# Altium schematic symbol library EL-sense_Accelerometer.SchLib: 4 symbols
Pins are listed as number, name and electrical type; pins without a type are passive.

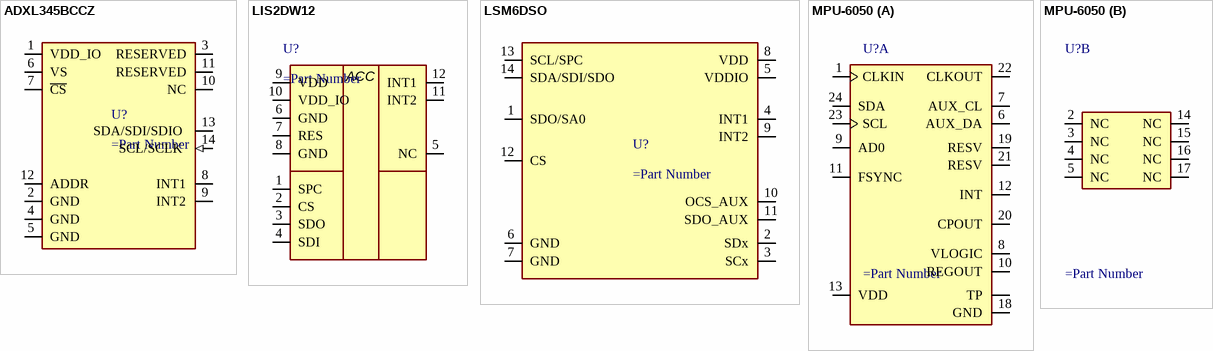
[diagram p0: symbols ADXL345BCCZ to MPU-6050]

## ADXL345BCCZ
designator U?
ComponentLink1Description: HelpURL; ComponentLink1URL: https://www.analog.com/media/en/technical-documentation/data-sheets/ADXL345.pdf?src-supplier=Farnell
pins: 1 VDD_IO (power), 2 GND (power), 3 RESERVED "Reserved. This pin must be connected to VS or left open.", 4 GND (power), 5 GND (power), 6 VS (power), 7 ~{CS} (power), 8 INT1, 9 INT2, 10 NC, 11 RESERVED (power) "Reserved. This pin must be connected to ground or left open", 12 ADDR, 13 SDA/SDI/SDIO  (io) "Serial Data (I2C)/Serial Data Input (SPI 4-Wire)/Serial Data Input and Output (SPI 3-Wire)", 14 SCL/SCLK  (in) "Serial Communications Clock. SCL is the clock for I2C, and SCLK is the clock for SPI."

## LIS2DW12
designator U?
pins: 1 SPC "SCL/SPC", 2 CS, 3 SDO "SDO/SA0", 4 SDI "SDA/SDI/SDO", 5 NC, 6 GND, 7 RES, 8 GND, 9 VDD, 10 VDD_IO, 11 INT2, 12 INT1
text: ACC

## LSM6DSO
designator U?
pins: 1 SDO/SA0, 2 SDx, 3 SCx, 4 INT1, 5 VDDIO, 6 GND, 7 GND, 8 VDD, 9 INT2, 10 OCS_AUX, 11 SDO_AUX, 12 CS, 13 SCL/SPC, 14 SDA/SDI/SDO

## MPU-6050
designator U?
part A pins: 1 CLKIN "Optional external reference clock input. Connect to GND if unused.", 6 AUX_DA "I2C master serial data, for connecting to external sensors", 7 AUX_CL "I2C Master serial clock, for connecting to external sensors", 8 VLOGIC "Digital I/O supply voltage", 9 AD0 "I2C Slave Address LSB (AD0)", 10 REGOUT "Regulator filter capacitor connection", 11 FSYNC "Frame synchronization digital input. Connect to GND if unused.", 12 INT "Interrupt digital output (totem pole or open-drain)", 13 VDD "Power supply voltage and Digital I/O supply voltage", 18 GND "Power supply ground", 19 RESV "Reserved. Do not connect.", 20 CPOUT "Charge pump capacitor connection", 21 RESV "Reserved. Do not connect.", 22 CLKOUT "Reserved. Do not connect.", 23 SCL "I2C serial clock (SCL)", 24 SDA "I2C serial data (SDA)", TP
part B pins: 2 NC "Not internally connected. May be used for PCB trace routing.", 3 NC "Not internally connected. May be used for PCB trace routing.", 4 NC "Not internally connected. May be used for PCB trace routing.", 5 NC "Not internally connected. May be used for PCB trace routing.", 14 NC "Not internally connected. May be used for PCB trace routing.", 15 NC "Not internally connected. May be used for PCB trace routing.", 16 NC "Not internally connected. May be used for PCB trace routing.", 17 NC "Not internally connected. May be used for PCB trace routing."